# EAGLE library part FTDI_DEVICE (library kanflo)
FTDI connector, device side This connector mates with an FTDI adapter using a straight ribbon cable.
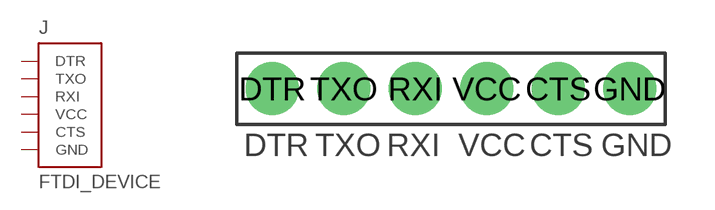
[diagram p4: symbol with the pads of FTDI; footprint FTDI]

Designator prefix J

## FTDI_DEVICE  [FTDI]
CTS  CTS  in
DTR  DTR  in
GND  GND  pwr
RXI  RXI  in
TXO  TXO  out
VCC  VCC  in

## Footprint FTDI (pad centres in mm)
FTDI connector, device side This connector mates with an FTDI adapter using a straight ribbon cable.
drill 1.016 pad 1.88: CTS 3.81,2.54; DTR -6.35,2.54; GND 6.35,2.54; RXI -1.27,2.54; TXO -3.81,2.54; VCC 1.27,2.54